# EAGLE library part 2047110001 (library SamacSys_Parts)
USB VERTICAL TYPE C 3.1 Source: Datasheet <https://www.molex.com/webdocs/datasheets/pdf/en-us/2047110001_IO_CONNECTORS.pdf>
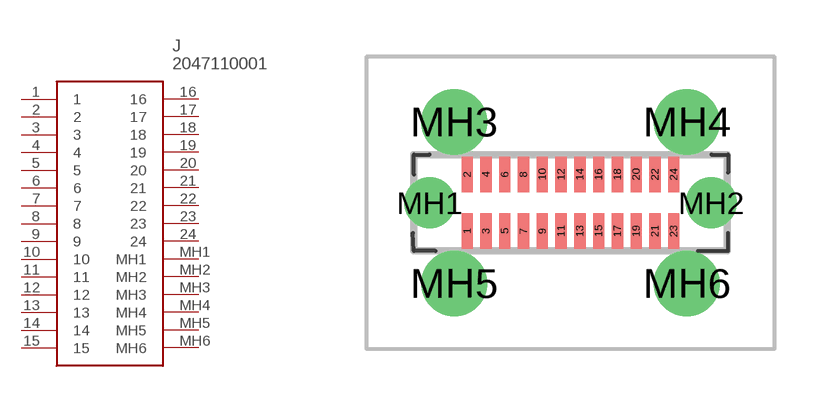
[diagram p4: symbol with the pads of 2047110001; footprint 2047110001]

Designator prefix J

## 2047110001 (ARROW_PART_NUMBER: 2047110001; ARROW_PRICE-STOCK: https://www.arrow.com/en/products/2047110001/molex; DESCRIPTION: USB VERTICAL TYPE C 3.1; HEIGHT: 10mm; MANUFACTURER_NAME: Molex; MANUFACTURER_PART_NUMBER: 2047110001)  [2047110001]
1  1
2  2
3  3
4  4
5  5
6  6
7  7
8  8
9  9
10  10
11  11
12  12
13  13
14  14
15  15
16  16
17  17
18  18
19  19
20  20
21  21
22  22
23  23
24  24
MH1  MH1
MH2  MH2
MH3  MH3
MH4  MH4
MH5  MH5
MH6  MH6

## Footprint 2047110001 (pad centres in mm)
2047110001-2
smd 0.3 x 0.95: 1 -2.75,-0.755; 2 -2.75,0.755; 3 -2.25,-0.755; 4 -2.25,0.755; 5 -1.75,-0.755; 6 -1.75,0.755; 7 -1.25,-0.755; 8 -1.25,0.755; 9 -0.75,-0.755; 10 -0.75,0.755; 11 -0.25,-0.755; 12 -0.25,0.755; 13 0.25,-0.755; 14 0.25,0.755; 15 0.75,-0.755; 16 0.75,0.755; 17 1.25,-0.755; 18 1.25,0.755; 19 1.75,-0.755; 20 1.75,0.755; 21 2.25,-0.755; 22 2.25,0.755; 23 2.75,-0.755; 24 2.75,0.755
drill 0.83 pad 1.349: MH1 -3.75,0; MH2 3.75,0
drill 1.17 pad 1.5: MH3 -3.1,2.15; MH4 3.1,2.15; MH5 -3.1,-2.15; MH6 3.1,-2.15